# Altium footprint library BDS_NBIOT.PcbLib: 30 footprints (part 2 of 2)
Each footprint in its own frame and in the unit in brackets; x right, y up, seen from the top. Pads: shape width x height; smd on the part's side, far side on the other; paste and mask are expansions set on the pad; w line width, h text height; cw(c..) or ccw(c..) is an arc to the next point about the centre after c.
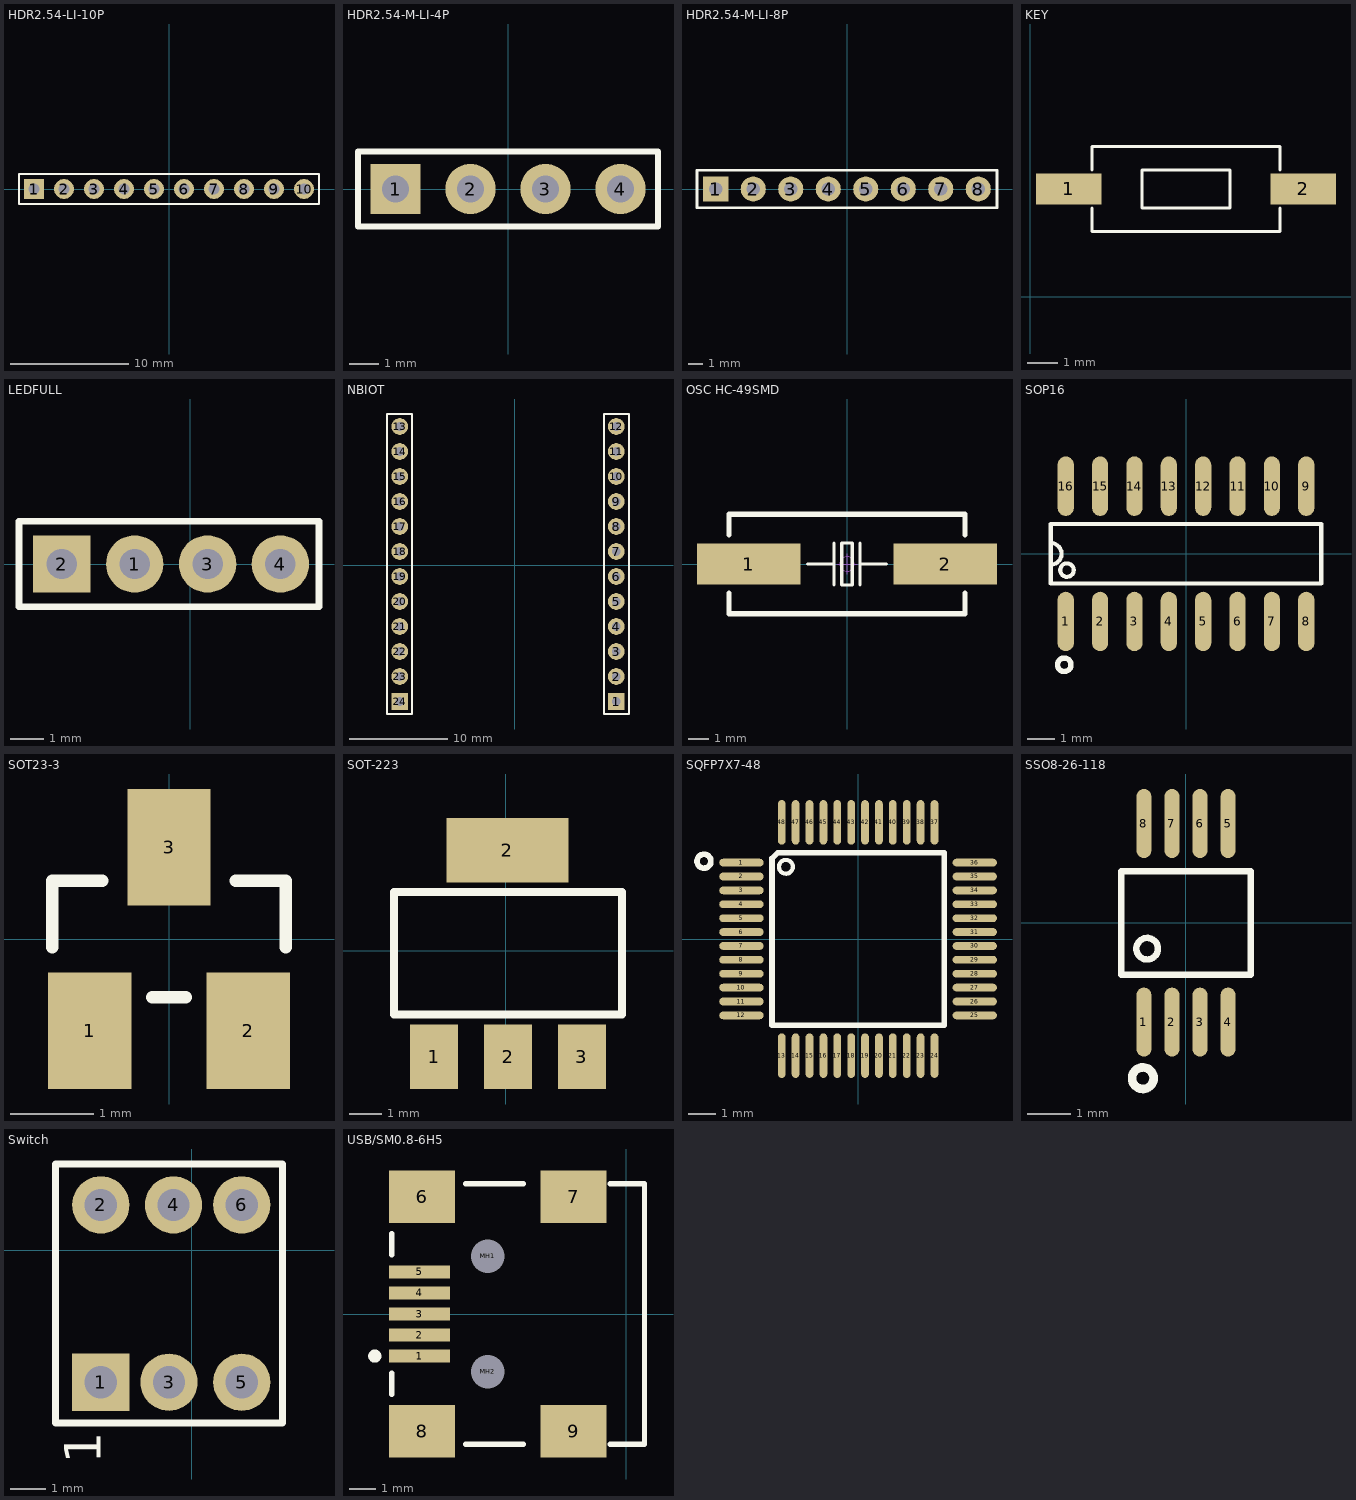
[diagram p1: the footprints below, top view; thin cyan lines are the x and y axes]

## HDR2.54-LI-10P [mm] "排针，10脚"
pads (10):
  rect 1.7x1.7 hole 0.9: 1(-11.43,0)
  round 1.7 hole 0.9: 2(-8.89,0) 3(-6.35,0) 4(-3.81,0) 5(-1.27,0) 6(1.27,0) 7(3.81,0) 8(6.35,0) 9(8.89,0) 10(11.43,0)
Top Overlay:
  lines w0.2: -12.7,-1.27 12.7,-1.27 12.7,1.27 -12.7,1.27 -12.7,-1.27
3D body "HDR2.54-1P.STEP": height 8.5, standoff -3, extent 10.16,-1.27 12.7,1.27
3D body "HDR2.54-1P.STEP": height 8.5, standoff -3, extent 5.08,-1.27 7.62,1.27
3D body "HDR2.54-1P.STEP": height 8.5, standoff -3, extent 7.62,-1.27 10.16,1.27
3D body "HDR2.54-1P.STEP": height 8.5, standoff -3, extent 0,-1.27 2.54,1.27
3D body "HDR2.54-1P.STEP": height 8.5, standoff -3, extent 2.54,-1.27 5.08,1.27
3D body "HDR2.54-1P.STEP": height 8.5, standoff -3, extent -2.54,-1.27 0,1.27
3D body "HDR2.54-1P.STEP": height 8.5, standoff -3, extent -7.62,-1.27 -5.08,1.27
3D body "HDR2.54-1P.STEP": height 8.5, standoff -3, extent -5.08,-1.27 -2.54,1.27
3D body "HDR2.54-1P.STEP": height 8.5, standoff -3, extent -12.7,-1.27 -10.16,1.27
3D body "HDR2.54-1P.STEP": height 8.5, standoff -3, extent -10.16,-1.27 -7.62,1.27

## HDR2.54-M-LI-4P [mm] "排母，4脚"
pads (4):
  rect 1.7x1.7 hole 0.9: 1(-3.81,0)
  round 1.7 hole 0.9: 2(-1.27,0) 3(1.27,0) 4(3.81,0)
Top Overlay:
  lines w0.2: -5.08,-1.27 5.08,-1.27 5.08,1.27 -5.08,1.27 -5.08,-1.27
3D body "HDR2.54-1P_M.STEP": height 8.5, standoff -3, extent 0,-1.27 2.54,1.27
3D body "HDR2.54-1P_M.STEP": height 8.5, standoff -3, extent -5.08,-1.27 -2.54,1.27
3D body "HDR2.54-1P_M.STEP": height 8.5, standoff -3, extent -2.54,-1.27 0,1.27
3D body "HDR2.54-1P_M.STEP": height 8.5, standoff -3, extent 2.54,-1.27 5.08,1.27

## HDR2.54-M-LI-8P [mm] "排母，8脚"
pads (8):
  rect 1.7x1.7 hole 0.9: 1(-8.89,0)
  round 1.7 hole 0.9: 2(-6.35,0) 3(-3.81,0) 4(-1.27,0) 5(1.27,0) 6(3.81,0) 7(6.35,0) 8(8.89,0)
Top Overlay:
  lines w0.2: -10.16,-1.27 10.16,-1.27 10.16,1.27 -10.16,1.27 -10.16,-1.27
3D body "HDR2.54-1P_M.STEP": height 8.5, standoff -3, extent 7.62,-1.27 10.16,1.27
3D body "HDR2.54-1P_M.STEP": height 8.5, standoff -3, extent -5.08,-1.27 -2.54,1.27
3D body "HDR2.54-1P_M.STEP": height 8.5, standoff -3, extent -10.16,-1.27 -7.62,1.27
3D body "HDR2.54-1P_M.STEP": height 8.5, standoff -3, extent -7.62,-1.27 -5.08,1.27
3D body "HDR2.54-1P_M.STEP": height 8.5, standoff -3, extent 2.54,-1.27 5.08,1.27
3D body "HDR2.54-1P_M.STEP": height 8.5, standoff -3, extent -2.54,-1.27 0,1.27
3D body "HDR2.54-1P_M.STEP": height 8.5, standoff -3, extent 0,-1.27 2.54,1.27
3D body "HDR2.54-1P_M.STEP": height 8.5, standoff -3, extent 5.08,-1.27 7.62,1.27

## KEY [mil]
pads (2):
  rect 85x40 smd: 1(50,140) 2(355,140)
Top Overlay:
  lines w3.94: 80,115 80,85 325,85 325,115 ; 80,165 80,195 325,195 325,165 ; 145,115 145,165 260,165 260,115 145,115

## LEDFULL [mm] "全彩LED"
pads (4):
  round 1.7 hole 0.9: 1(-1.651,0) 3(0.508,0) 4(2.667,0)
  rect 1.7x1.7 hole 0.9: 2(-3.81,0)
Top Overlay:
  lines w0.2: -5.08,-1.27 3.81,-1.27 3.81,1.27 -5.08,1.27 -5.08,-1.27

## NBIOT [mm] "排母，12脚"
pads (24):
  rect 1.7x1.7 hole 0.9: 1(10.316,-13.843) 24(-11.684,-13.843)
  round 1.7 hole 0.9: 2(10.316,-11.303) 3(10.316,-8.763) 4(10.316,-6.223) 5(10.316,-3.683) 6(10.316,-1.143) 7(10.316,1.397) 8(10.316,3.937) 9(10.316,6.477) 10(10.316,9.017) 11(10.316,11.557) 12(10.316,14.097) 13(-11.684,14.097) 14(-11.684,11.557) 15(-11.684,9.017) 16(-11.684,6.477) 17(-11.684,3.937) 18(-11.684,1.397) 19(-11.684,-1.143) 20(-11.684,-3.683) 21(-11.684,-6.223) 22(-11.684,-8.763) 23(-11.684,-11.303)
Top Overlay:
  lines w0.2: -12.954,-15.113 -10.414,-15.113 -10.414,15.367 -12.954,15.367 -12.954,-15.113 ; 9.046,-15.113 9.046,15.367 11.586,15.367 11.586,-15.113 9.046,-15.113
3D body: height 0.25, standoff 0, extent -12.954,12.827 -10.414,15.367
3D body "HDR2.54-1P_M.STEP": height 8.5, standoff -3, extent -12.954,10.287 -10.414,12.827
3D body "HDR2.54-1P_M.STEP": height 8.5, standoff -3, extent -12.954,7.747 -10.414,10.287
3D body "HDR2.54-1P_M.STEP": height 8.5, standoff -3, extent -12.954,-15.113 -10.414,-12.573
3D body "HDR2.54-1P_M.STEP": height 8.5, standoff -3, extent -12.954,-12.573 -10.414,-10.033
3D body "HDR2.54-1P_M.STEP": height 8.5, standoff -3, extent -12.954,-10.033 -10.414,-7.493
3D body "HDR2.54-1P_M.STEP": height 8.5, standoff -3, extent -12.954,-7.493 -10.414,-4.953
3D body "HDR2.54-1P_M.STEP": height 8.5, standoff -3, extent -12.954,-4.953 -10.414,-2.413
3D body "HDR2.54-1P_M.STEP": height 8.5, standoff -3, extent -12.954,-2.413 -10.414,0.127
3D body "HDR2.54-1P_M.STEP": height 8.5, standoff -3, extent -12.954,0.127 -10.414,2.667
3D body "HDR2.54-1P_M.STEP": height 8.5, standoff -3, extent -12.954,2.667 -10.414,5.207
3D body "HDR2.54-1P_M.STEP": height 8.5, standoff -3, extent -12.954,5.207 -10.414,7.747
3D body "HDR2.54-1P_M.STEP": height 8.5, standoff -3, extent 9.046,5.207 11.586,7.747
3D body "HDR2.54-1P_M.STEP": height 8.5, standoff -3, extent 9.046,2.667 11.586,5.207
3D body "HDR2.54-1P_M.STEP": height 8.5, standoff -3, extent 9.046,0.127 11.586,2.667
3D body "HDR2.54-1P_M.STEP": height 8.5, standoff -3, extent 9.046,-2.413 11.586,0.127
3D body "HDR2.54-1P_M.STEP": height 8.5, standoff -3, extent 9.046,-4.953 11.586,-2.413
3D body "HDR2.54-1P_M.STEP": height 8.5, standoff -3, extent 9.046,-7.493 11.586,-4.953
3D body "HDR2.54-1P_M.STEP": height 8.5, standoff -3, extent 9.046,-10.033 11.586,-7.493
3D body "HDR2.54-1P_M.STEP": height 8.5, standoff -3, extent 9.046,-12.573 11.586,-10.033
3D body "HDR2.54-1P_M.STEP": height 8.5, standoff -3, extent 9.046,-15.113 11.586,-12.573
3D body "HDR2.54-1P_M.STEP": height 8.5, standoff -3, extent 9.046,7.747 11.586,10.287
3D body "HDR2.54-1P_M.STEP": height 8.5, standoff -3, extent 9.046,10.287 11.586,12.827
3D body "HDR2.54-1P_M.STEP": height 8.5, standoff -3, extent 9.046,12.827 11.586,15.367

## OSC HC-49SMD [mm]
pads (2):
  rect 5x2 smd: 1(-4.75,0) 2(4.75,0)
Top Overlay:
  lines w0.152: -1.905,0 -0.635,0 ; -0.635,-1.016 -0.635,1.016 ; 0.635,-1.016 0.635,1.016 ; 0.635,0 1.905,0 ; -0.254,-1.016 0.254,-1.016 0.254,1.016 -0.254,1.016 -0.254,-1.016
  lines w0.254: -5.7,-1.397 -5.7,-2.4 5.7,-2.4 5.7,-1.397 ; -5.7,1.397 -5.7,2.4 5.7,2.4 5.7,1.397
Mechanical 15:
  circle w0.05: c0,0 r0.35
  lines w0.05: -0.5,0 0.5,0 ; 0,-0.5 0,0.5
3D body "OSC HC-49SMD.STEP": height 4.63, standoff 0.03, extent -6.5,-2.325 6.5,2.325

## SOP16 [mm]
pads (16):
  oval 0.6x2.2 smd: 1(-4.445,-2.5) 2(-3.175,-2.5) 3(-1.905,-2.5) 4(-0.635,-2.5) 5(0.635,-2.5) 6(1.905,-2.5) 7(3.175,-2.5) 8(4.445,-2.5) 9(4.445,2.5) 10(3.175,2.5) 11(1.905,2.5) 12(0.635,2.5) 13(-0.635,2.5) 14(-1.905,2.5) 15(-3.175,2.5) 16(-4.445,2.5)
Top Overlay:
  circle w0.15: c-4.4,-0.6 r0.25
  circle w0.2: c-4.5,-4.1 r0.25
  lines w0.15: -5,-0.4 ccw(c-5,0) -5,0.4 ; -5,-1.1 -5,1.1 5,1.1 5,-1.1 -5,-1.1

## SOT23-3 [mm]
pads (3):
  rect 1x1.4 smd: 1(-0.95,-1.1) 2(0.95,-1.1) 3(0,1.1)
Top Overlay:
  lines w0.15: -1.4,-0.1 -1.4,0.7 -0.8,0.7 ; -0.2,-0.7 0.2,-0.7 ; 0.8,0.7 1.4,0.7 1.4,-0.1

## SOT-223 [mil]
pads (4):
  rect 59x79 smd: 1(-88,-130) 2(2.55,-130) 3(93.1,-130)
  rect 150x79 smd: 2(1.88,123.54)
Top Overlay:
  lines w10: -137.45,-78 142.55,-78 142.55,72 -137.45,72 -137.45,-78
3D body "SOT-223_MP04A.STEP": height 66.93, standoff 0, extent -126.41,-138.72 129.5,135.3

## SQFP7X7-48 [mm]
pads (48):
  oval 1.6x0.28 smd: 1(-4.2,2.75) 2(-4.2,2.25) 3(-4.2,1.75) 4(-4.2,1.25) 5(-4.2,0.75) 6(-4.2,0.25) 7(-4.2,-0.25) 8(-4.2,-0.75) 9(-4.2,-1.25) 10(-4.2,-1.75) 11(-4.2,-2.25) 12(-4.2,-2.75) 25(4.2,-2.75) 26(4.2,-2.25) 27(4.2,-1.75) 28(4.2,-1.25) 29(4.2,-0.75) 30(4.2,-0.25) 31(4.2,0.25) 32(4.2,0.75) 33(4.2,1.25) 34(4.2,1.75) 35(4.2,2.25) 36(4.2,2.75)
  oval 0.28x1.6 smd: 13(-2.75,-4.2) 14(-2.25,-4.2) 15(-1.75,-4.2) 16(-1.25,-4.2) 17(-0.75,-4.2) 18(-0.25,-4.2) 19(0.25,-4.2) 20(0.75,-4.2) 21(1.25,-4.2) 22(1.75,-4.2) 23(2.25,-4.2) 24(2.75,-4.2) 37(2.75,4.2) 38(2.25,4.2) 39(1.75,4.2) 40(1.25,4.2) 41(0.75,4.2) 42(0.25,4.2) 43(-0.25,4.2) 44(-0.75,4.2) 45(-1.25,4.2) 46(-1.75,4.2) 47(-2.25,4.2) 48(-2.75,4.2)
Top Overlay:
  circle w0.15: c-2.6,2.6 r0.25
  circle w0.2: c-5.55,2.8 r0.25
  lines w0.2: -3.1,-3.1 -3.1,2.9 -2.9,3.1 3.1,3.1 3.1,-3.1 -3.1,-3.1

## SSO8-26-118 [mm]
pads (8):
  oval 0.35x1.6 smd: 1(-0.975,-2.3) 2(-0.325,-2.3) 3(0.325,-2.3) 4(0.975,-2.3) 5(0.975,2.3) 6(0.325,2.3) 7(-0.325,2.3) 8(-0.975,2.3)
Top Overlay:
  circle w0.15: c-0.9,-0.6 r0.25
  circle w0.2: c-1,-3.6 r0.25
  lines w0.15: -1.5,-1.2 1.5,-1.2 1.5,1.2 -1.5,1.2 -1.5,-1.2

## Switch [mm] "自锁开关 8*8"
pads (6):
  rect 1.6x1.6 hole 0.9: 1(-2.54,-3.683)
  round 1.6 hole 0.9: 2(-2.54,1.27) 3(-0.635,-3.683) 4(-0.508,1.27) 5(1.397,-3.683) 6(1.397,1.27)
Top Overlay:
  lines w0.2: -3.81,-4.826 -3.81,2.413 2.54,2.413 2.54,-4.826 -3.81,-4.826
  text "1" at -2.54,-5.969 h1.02

## USB/SM0.8-6H5 [mm]
pads (11):
  rect 2.3x0.5 smd: 1(-7.85,-1.6) 2(-7.85,-0.8) 3(-7.85,0) 4(-7.85,0.8) 5(-7.85,1.6)
  rect 2.5x2 smd: 6(-7.75,4.45) 7(-1.996,4.45) 8(-7.75,-4.45) 9(-1.996,-4.45)
  round 0.6 hole 1.27 unplated: MH1(-5.25,2.2) MH2(-5.25,-2.2)
Top Overlay:
  circle w0.25: c-9.55,-1.6 r0.125
  lines w0.2: -8.9,-3.05 -8.9,-2.25 ; -8.9,2.25 -8.9,3.05 ; -6.1,-4.95 -3.9,-4.95 ; -6.1,4.95 -3.9,4.95 ; -0.6,-4.95 0.7,-4.95 0.7,4.95 -0.6,4.95